# Altium schematic symbol library Buck 18V D3 v2.Schlib: 1 symbol
Pins are listed as number, name and electrical type; pins without a type are passive.

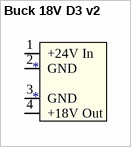
[diagram p0: symbol Buck 18V D3 v2]

## Buck 18V D3 v2
designator *
footprint Model Name (Footprint not found)
pins: 1 +24V In, 2 GND, 3 GND, 4 +18V Out